# EAGLE library part MC14538BDG (library on-semiconductor-01)
Dual Precision Retriggerable/Resettable Monostable Multivibrator
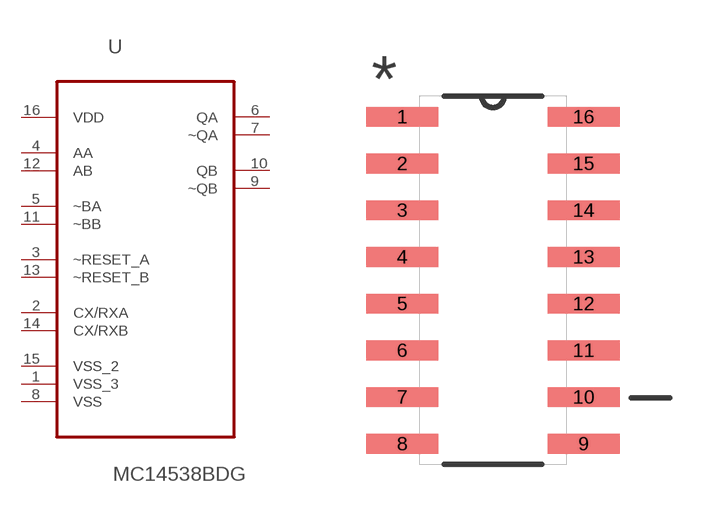
[diagram p292: symbol with the pads of SOIC127P600X175-16N; footprint SOIC127P600X175-16N]

Designator prefix U

## MC14538BDG (MPN: MC14538BDG; OC_FARNELL: 9666575; OC_NEWARK: 45J1121; PACKAGE: SOIC-16; SUPPLIER: ON SEMICONDUCTOR)  [SOIC127P600X175-16N]
1  VSS_3  pas
2  CX/RXA  in
3  ~RESET_A  in
4  AA  in
5  ~BA  in
6  QA  out
7  ~QA  out
8  VSS  pas
9  ~QB  out
10  QB  out
11  ~BB  in
12  AB  in
13  ~RESET_B  in
14  CX/RXB  in
15  VSS_2  pas
16  VDD  pwr

## Footprint SOIC127P600X175-16N (pad centres in mm)
smd 1.956 x 0.533: 1 -2.464,4.445; 2 -2.464,3.175; 3 -2.464,1.905; 4 -2.464,0.635; 5 -2.464,-0.635; 6 -2.464,-1.905; 7 -2.464,-3.175; 8 -2.464,-4.445; 9 2.464,-4.445; 10 2.464,-3.175; 11 2.464,-1.905; 12 2.464,-0.635; 13 2.464,0.635; 14 2.464,1.905; 15 2.464,3.175; 16 2.464,4.445